# EAGLE library part AD5601 (library ICs)
SPI DAC, 8 bit, SPI, 1.7MPS, SC70
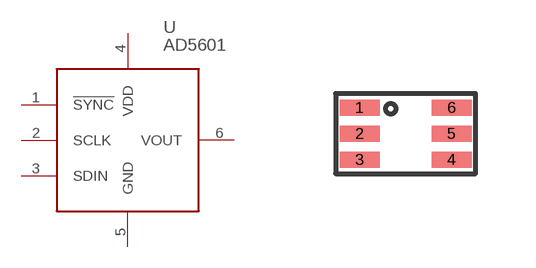
[diagram p57: symbol with the pads of SC70-6; footprint SC70-6]

Designator prefix U

## AD5601BKSZ-500RL7 (FARNELL: 1117913; PRICE_PER: 1.03; VALUE: AD5601)  [SC70-6]
1  !SYNC
2  SCLK
3  SDIN
4  VDD
5  GND
6  VOUT

## Footprint SC70-6 (pad centres in mm)
smd 1 x 0.4: 1 -1.15,0.65; 2 -1.15,0; 3 -1.15,-0.65; 4 1.15,-0.65; 5 1.15,0; 6 1.15,0.65